# Altium schematic symbol library CAP.SchLib: 4 symbols
Pins are listed as number, name and electrical type; pins without a type are passive.

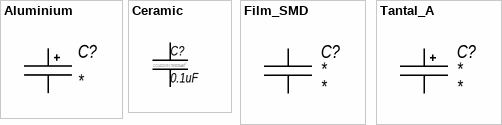
[diagram p0: symbols Aluminium to Tantal_A]

## Aluminium
designator C?
CategorySub: Chip Ceramic Capacitors; Category: CAP; Zone: =ZoneName; Value: *
pins: 1, 2

## Ceramic
designator C?, comment Voltage: __ V  PartNumber: CC0402KRX7R8BB183  (hidden comment: 0.1uF)
Manufacturer: Yageo; Value: 0.1uF
pins: 1, 2

## Film_SMD
designator C?
Voltage: *; Value: *
pins: 1, 2

## Tantal_A
designator C?
Voltage: *; Value: *
pins: 1, 2